# EAGLE library part BIENAPLON (library BIENAPLON)
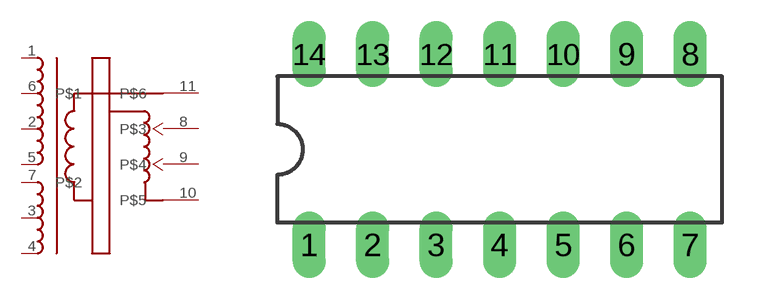
[diagram p0: symbol with the pads of BIENAPLON; footprint BIENAPLON]

Designator prefix -

## BIENAPLON  [BIENAPLON]
1  A1  pas
2  A2  pas
3  A5  pas
4  E1  pas
5  E2  pas
6  P$1  pas
7  P$2  pas
8  P$3
9  P$4
10  P$5
11  P$6

## Footprint BIENAPLON (pad centres in mm)
drill 0.813 long: 1 -20.32,-2.54; 2 -17.78,-2.54; 3 -15.24,-2.54; 4 -12.7,-2.54; 5 -10.16,-2.54; 6 -7.62,-2.54; 7 -5.08,-2.54; 8 -5.08,5.08; 9 -7.62,5.08; 10 -10.16,5.08; 11 -12.7,5.08; 12 -15.24,5.08; 13 -17.78,5.08; 14 -20.32,5.08